# Altium footprint library T2M-105-01-X-D-SM.PcbLib: 1 footprints
Each footprint in its own frame and in the unit in brackets; x right, y up, seen from the top. Pads: shape width x height; smd on the part's side, far side on the other; paste and mask are expansions set on the pad; w line width, h text height; cw(c..) or ccw(c..) is an arc to the next point about the centre after c.
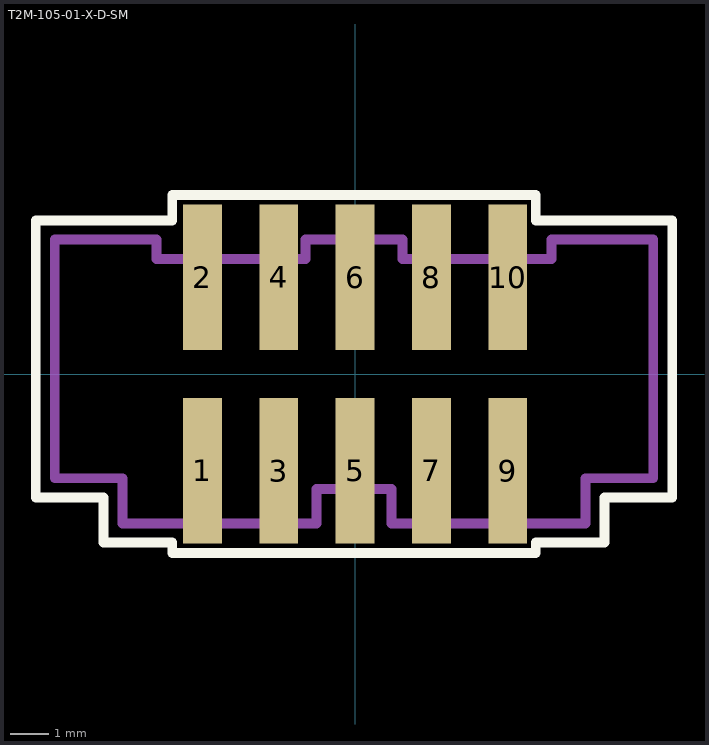
[diagram p0: the footprint, top view; thin cyan lines are the x and y axes]

## T2M-105-01-X-D-SM [mm]
pads (10):
  rect 1.02x3.8 smd mask+0.05: 1(-4,-2.535) 2(-4,2.535) 3(-2,-2.535) 4(-2,2.535) 5(0,-2.535) 6(0,2.535) 7(2,-2.535) 8(2,2.535) 9(4,-2.535) 10(4,2.535)
Top Overlay:
  lines w0.254: -8.365,-3.235 -6.592,-3.235 -6.592,-4.415 -4.79,-4.415 -4.79,-4.691 4.734,-4.691 4.734,-4.415 6.537,-4.415 6.537,-3.235 8.309,-3.235 8.309,4.023 4.734,4.023 4.734,4.691 -4.79,4.691 -4.79,4.023 -8.365,4.023 -8.365,-3.235
Mechanical 1:
  lines w0.254: -7.865,-2.735 -7.865,3.523 -5.203,3.523 -5.203,3.015 -1.298,3.015 -1.298,3.523 1.242,3.523 1.242,3.015 5.148,3.015 5.148,3.523 7.809,3.523 7.809,-2.735 6.037,-2.735 6.037,-3.915 0.956,-3.915 0.956,-3.015 -1.011,-3.015 -1.011,-3.915 -6.092,-3.915 -6.092,-2.735 -7.865,-2.735
  text "J1" at -0.497,-0.508 h0.76
3D body: height 6.5, standoff -0.05, extent -7.837,-4.313 7.837,4.314